# EAGLE library part CONNECTOR-16_?_* (library HyTechDevices)
16 pin connector Datasheet <https://www.molex.com/webdocs/datasheets/pdf/en-us/0430451614_PCB_HEADERS.pdf>
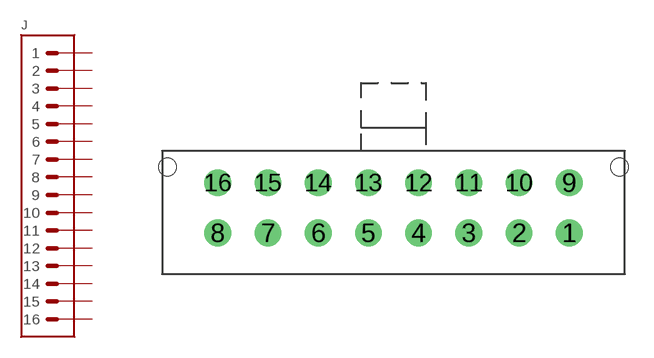
[diagram p62: symbol with the pads of MOLEX_MICROFIT_PTH_VERTICAL_16_DUAL; footprint MOLEX_MICROFIT_PTH_VERTICAL_16_DUAL]

Designator prefix J

## CONNECTOR-16_MF_T_V_ (DKPN: WM4718-ND; MANUFACTURER: MOLEX; MOPN: 538-43045-1614; MPN: 0430451614)  [MOLEX_MICROFIT_PTH_VERTICAL_16_DUAL]
1  1  pas
2  2  pas
3  3  pas
4  4  pas
5  5  pas
6  6  pas
7  7  pas
8  8  pas
9  9  pas
10  10  pas
11  11  pas
12  12  pas
13  13  pas
14  14  pas
15  15  pas
16  16  pas

## Footprint MOLEX_MICROFIT_PTH_VERTICAL_16_DUAL (pad centres in mm)
16 Pin Micro-Fit Vertical Header, Through-Hole, Dual Row Part <https://www.molex.com/molex/products/part-detail/pcb_headers/0430451614> Footprint <https://www.molex.com/pdm_docs/sd/430451614_sd.pdf> Plug Size <https://www.molex.com/pdm_docs/sd/430251400_sd.pdf>
drill 1.067: 1 10.5,-3; 2 7.5,-3; 3 4.5,-3; 4 1.5,-3; 5 -1.5,-3; 6 -4.5,-3; 7 -7.5,-3; 8 -10.5,-3; 9 10.5,0; 10 7.5,0; 11 4.5,0; 12 1.5,0; 13 -1.5,0; 14 -4.5,0; 15 -7.5,0; 16 -10.5,0
hole 1.067 at 13.5,0.94
hole 1.067 at -13.5,0.94